# Altium footprint library photodiodeconn.PcbLib: 1 footprints
Each footprint in its own frame and in the unit in brackets; x right, y up, seen from the top. Pads: shape width x height; smd on the part's side, far side on the other; paste and mask are expansions set on the pad; w line width, h text height; cw(c..) or ccw(c..) is an arc to the next point about the centre after c.
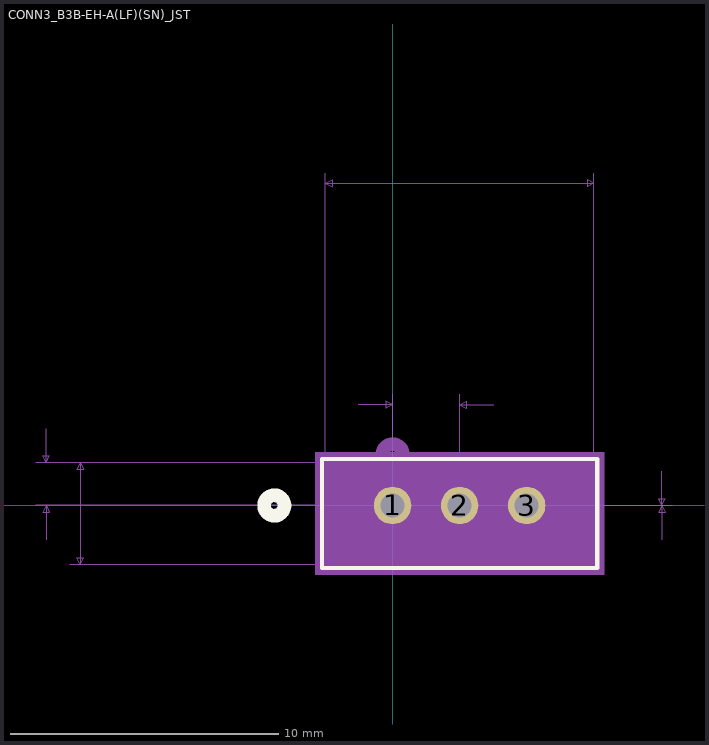
[diagram p0: the footprint, top view; thin cyan lines are the x and y axes]

## CONN3_B3B-EH-A(LF)(SN)_JST [mil]
pads (3):
  round 55 hole 35 mask+0: 1(0,0) 2(98.43,0) 3(196.85,0)
Top Overlay:
  circle w20: c-173.57,0 r15
  lines w6: -103.57,-92.01 300.43,-92.01 300.43,67.99 -103.57,67.99 -103.57,-92.01
Bottom Overlay:
  circle w20: c-173.57,0 r15
Mechanical 5:
  region: -113.57,77.99 310.43,77.99 310.43,-102.01 -113.57,-102.01
Mechanical 7:
  lines w1: -523.57,0 98.43,0 98.43,162.99 ; -523.57,62.99 -98.57,62.99 ; -508.57,-50 -508.57,0 ; -508.57,112.99 -508.57,62.99 ; -473.57,-87.01 -98.57,-87.01 ; -473.57,62.99 -98.57,62.99 ; -98.57,487.99 -98.57,62.99 ; -50,147.99 0,147.99 ; 0,162.99 0,0 ; 148.43,147.99 98.43,147.99 ; 295.43,62.99 295.43,487.99 ; 395.43,-50 395.43,0 ; 395.43,50 395.43,0 ; -508.57,0 -513.57,-10 -503.57,-10 -508.57,0 ; -508.57,62.99 -513.57,72.99 -503.57,72.99 -508.57,62.99 ; -458.57,-87.01 -458.57,62.99 ; -458.57,-87.01 -463.57,-77.01 -453.57,-77.01 -458.57,-87.01 ; -458.57,62.99 -463.57,52.99 -453.57,52.99 -458.57,62.99 ; -98.57,472.99 295.43,472.99 ; -98.57,472.99 -88.57,477.99 -88.57,467.99 -98.57,472.99 ; 0,0 410.43,0 0,0 ; 0,147.99 -10,152.99 -10,142.99 0,147.99 ; 98.43,147.99 108.43,152.99 108.43,142.99 98.43,147.99 ; 295.43,472.99 285.43,477.99 285.43,467.99 295.43,472.99 ; 395.43,0 390.43,10 400.43,10 395.43,0 ; 395.43,0 390.43,-10 400.43,-10 395.43,0
  text "Default Padstyle: EX55Y55D35P" at -264.07,-247.01 h50
  text "1st Mtg Padstyle: RX110Y80D50P" at -276.57,-322.01 h50
  text "2nd Mtg Padstyle: EX70Y70D70P" at -264.07,-397.01 h50
  text "3rd Mtg Padstyle: EX70Y70D70P" at -264.07,-472.01 h50
  text "Left Mtg Padstyle: EX60Y60D30P" at -276.57,-547.01 h50
  text "Right Mtg Padstyle: EX60Y60D30P" at -289.07,-622.01 h50
  text "Alt Padstyle 1: OX60Y90D30P" at -239.07,-697.01 h50
  text "Alt Padstyle 2: OX90Y60D30P" at -239.07,-772.01 h50
  text "0.098in/2.5mm" at -81.25,167.99 h25
  text "0.394in/10.008mm" at -1.57,492.99 h25
  text "0in/0mm" at 415.43,-12.5 h25
  text "0.063in/1.6mm" at -691.07,19 h25
  text "0.15in/3.81mm" at -641.07,-24.51 h25
Mechanical 13:
  circle w20: c0,75 r15
  lines w1: -98.57,-87.01 295.43,-87.01 295.43,62.99 -98.57,62.99 -98.57,-87.01
Mechanical 15:
  region: 305.43,72.99 -108.57,72.99 -108.57,-97.01 305.43,-97.01
  lines w6: -108.57,-97.01 -108.57,72.99 305.43,72.99 305.43,-97.01 -108.57,-97.01
3D body: height 10, standoff 0, extent 0,0 10,10